# Altium footprint library Pad.PcbLib: 3 footprints
Each footprint in its own frame and in the unit in brackets; x right, y up, seen from the top. Pads: shape width x height; smd on the part's side, far side on the other; paste and mask are expansions set on the pad; w line width, h text height; cw(c..) or ccw(c..) is an arc to the next point about the centre after c.
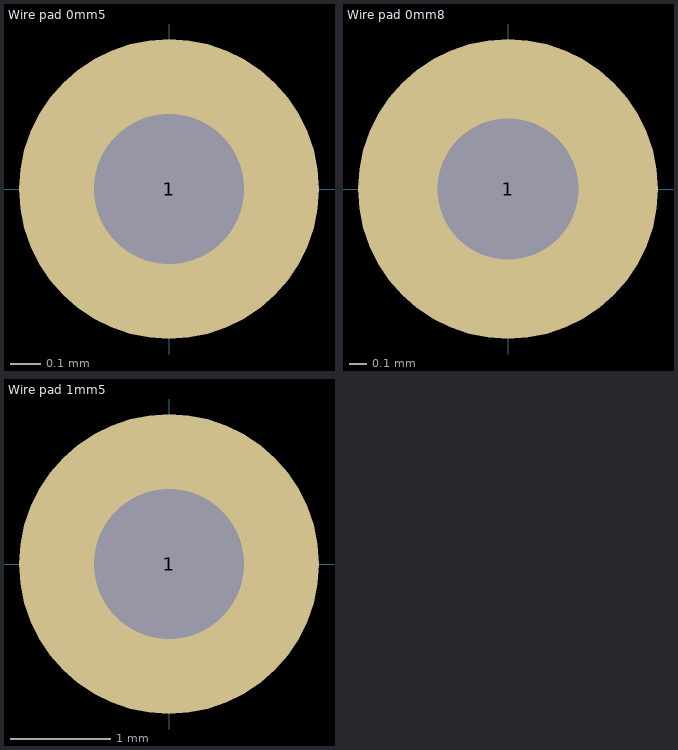
[diagram p0: the footprints below, top view; thin cyan lines are the x and y axes]

## Wire pad 0mm5 [mm]
pads (1):
  round 1 hole 0.5: 1(0,0)

## Wire pad 0mm8 [mm]
pads (1):
  round 1.7 hole 0.8: 1(0,0)

## Wire pad 1mm5 [mm]
pads (1):
  round 3 hole 1.5: 1(0,0)